# Altium footprint library Wacky_1.PcbLib: 14 footprints
Each footprint in its own frame and in the unit in brackets; x right, y up, seen from the top. Pads: shape width x height; smd on the part's side, far side on the other; paste and mask are expansions set on the pad; w line width, h text height; cw(c..) or ccw(c..) is an arc to the next point about the centre after c.
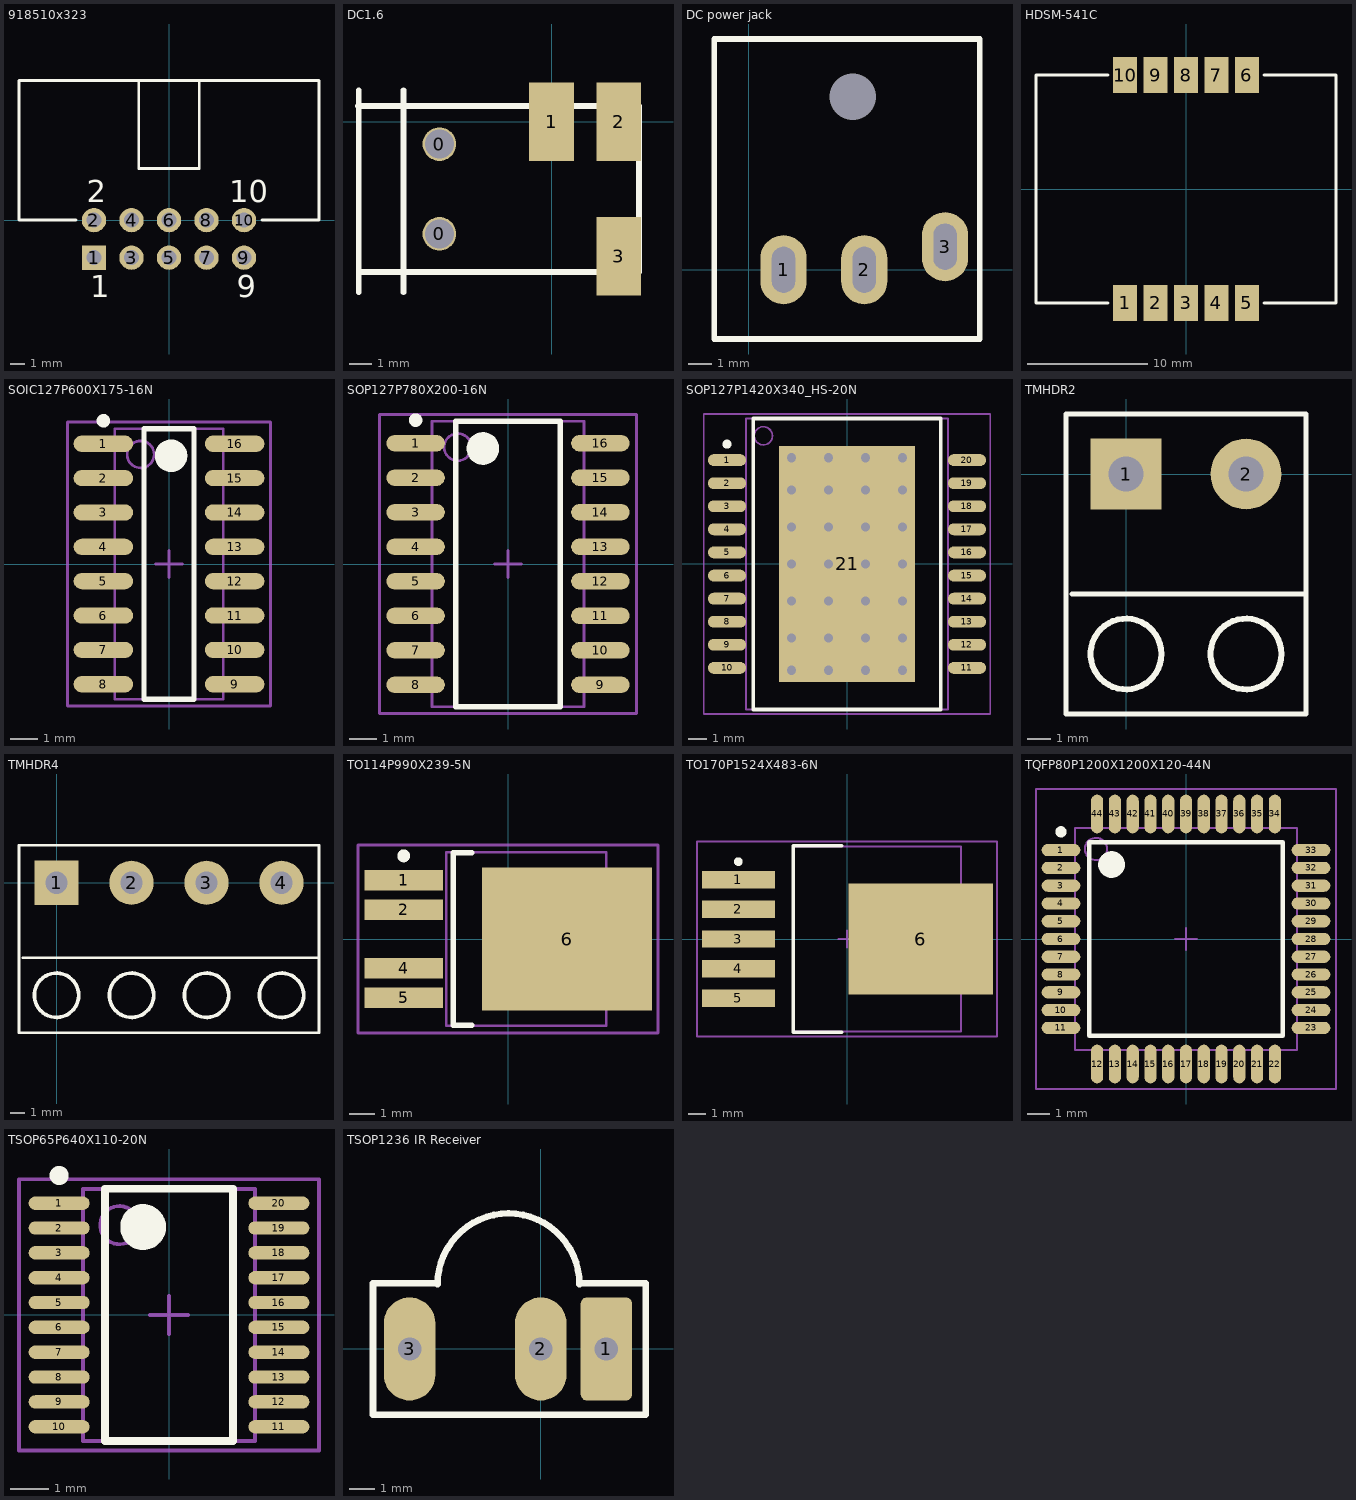
[diagram p0: the footprints below, top view; thin cyan lines are the x and y axes]

## 918510x323 [mm] "Connector; IDC, Low Profile Male Header, Thru-Hole; 10 Position; Right Angle; Pitch 2.54 mm; Body 20.32 x 8.9 x 9.2 mm (LxWxH)"
height 9.2
pads (10):
  rect 1.65x1.65 hole 1: 1(-5.08,-2.54)
  round 1.65 hole 1: 2(-5.08,0) 3(-2.54,-2.54) 4(-2.54,0) 5(0,-2.54) 6(0,0) 7(2.54,-2.54) 8(2.54,0) 9(5.08,-2.54) 10(5.08,0)
Top Overlay:
  lines w0.2: -6.305,0 -10.16,0 -10.16,9.45 10.16,9.45 10.16,0 6.305,0 ; -2.05,9.45 -2.05,3.48 2.05,3.48 2.05,9.45
  text "2" at -5.58,1.2 h1.5
  text "1" at -5.33,-5.24 h1.5
  text "10" at 4.08,1.2 h1.5
  text "9" at 4.58,-5.24 h1.5
3D body: height 9.2, standoff 0, extent -10.26,-0.1 10.26,9.55

## DC1.6 [mm] "DC 1.6mm Socket SMD"
height 6
pads (5):
  round 1.5 hole 1.3 paste+0 mask+0: 0(-5,-5) 0(-5,-1)
  rect 2x3.5 smd paste+0 mask+0: 1(0,0) 2(3,0) 3(3,-6)
Top Overlay:
  lines w0.254: -8.631,0.7 3.9,0.7 3.9,-6.7 -8.6,-6.7 ; -8.6,-7.6 -8.6,1.4 ; -6.6,-7.6 -6.6,1.4

## DC power jack [mm] "almost certianly wrong"
pads (4):
  oval 2x3 hole 1 slot 2 at 90 deg: 1(1.5,0) 2(5,0) 3(8.5,1)
  round 0 hole 2: ""(4.5,7.5)
Top Overlay:
  lines w0.254: -1.5,-3 10,-3 10,10 -1.5,10 -1.5,-3

## HDSM-541C [mm] "2 char 7 segment smt led display"
height 3.75
pads (10):
  rect 2x3 smd: 1(-5.08,-9.5) 2(-2.54,-9.5) 3(0,-9.5) 4(2.54,-9.5) 5(5.08,-9.5) 6(5.08,9.5) 7(2.54,9.5) 8(0,9.5) 9(-2.54,9.5) 10(-5.08,9.5)
Top Overlay:
  lines w0.254: -6.5,-9.5 -12.5,-9.5 -12.5,9.5 -6.5,9.5 ; 6.5,-9.5 12.5,-9.5 12.5,9.5 6.5,9.5
3D body: height 3.75, standoff 0.6, extent -12.5,-8.5 12.5,8.5
3D body: height 0.6, standoff 0.14, extent -12.5,-9.5 12.5,9.5

## SOIC127P600X175-16N [mm] "SOIC, 16-Leads, Body 10.0x4.0mm (max), Pitch 1.27mm, IPC Medium Density"
height 1.75
pads (16):
  oval 2.2x0.6 smd: 1(-2.425,4.445) 2(-2.425,3.175) 3(-2.425,1.905) 4(-2.425,0.635) 5(-2.425,-0.635) 6(-2.425,-1.905) 7(-2.425,-3.175) 8(-2.425,-4.445) 9(2.425,-4.445) 10(2.425,-3.175) 11(2.425,-1.905) 12(2.425,-0.635) 13(2.425,0.635) 14(2.425,1.905) 15(2.425,3.175) 16(2.425,4.445)
Top Overlay:
  circle w0.6: c0.075,4 r0.3
  circle w0.25: c-2.425,5.295 r0.125
  lines w0.2: -0.925,-5 0.925,-5 0.925,5 -0.925,5 -0.925,-5
Mechanical 13:
  circle w0.1: c-1.05,4.05 r0.5
  lines w0.1: -2,-5 2,-5 2,5 -2,5 -2,-5
Mechanical 15:
  lines w0.1: -0.5,0 0.5,0 ; 0,-0.5 0,0.5 ; -3.75,-5.25 3.75,-5.25 3.75,5.25 -3.75,5.25 -3.75,-5.25
3D body: height 1.75, standoff 0.19, extent -2,-5 2,5

## SOP127P780X200-16N [mm] "SOP, 16-Leads, Body 10.5x5.6mm (max), Pitch 1.27mm, IPC Medium Density"
height 2
pads (16):
  oval 2.15x0.6 smd: 1(-3.4,4.445) 2(-3.4,3.175) 3(-3.4,1.905) 4(-3.4,0.635) 5(-3.4,-0.635) 6(-3.4,-1.905) 7(-3.4,-3.175) 8(-3.4,-4.445) 9(3.4,-4.445) 10(3.4,-3.175) 11(3.4,-1.905) 12(3.4,-0.635) 13(3.4,0.635) 14(3.4,1.905) 15(3.4,3.175) 16(3.4,4.445)
Top Overlay:
  circle w0.6: c-0.925,4.25 r0.3
  circle w0.25: c-3.4,5.295 r0.125
  lines w0.2: -1.925,-5.25 1.925,-5.25 1.925,5.25 -1.925,5.25 -1.925,-5.25
Mechanical 13:
  circle w0.1: c-1.85,4.3 r0.5
  lines w0.1: -2.8,-5.25 2.8,-5.25 2.8,5.25 -2.8,5.25 -2.8,-5.25
Mechanical 15:
  lines w0.1: -0.5,0 0.5,0 ; 0,-0.5 0,0.5 ; -4.725,-5.5 4.725,-5.5 4.725,5.5 -4.725,5.5 -4.725,-5.5
3D body: height 2, standoff 0.25, extent -2.8,-5.25 2.8,5.25

## SOP127P1420X340_HS-20N [mm] "SOP, 20-Leads, Body 16.0x11.1mm (max), Pitch 1.27mm, IPC Medium Density"
height 3.4
pads (21):
  oval 2.1x0.65 smd: 1(-6.6,5.715) 2(-6.6,4.445) 3(-6.6,3.175) 4(-6.6,1.905) 5(-6.6,0.635) 6(-6.6,-0.635) 7(-6.6,-1.905) 8(-6.6,-3.175) 9(-6.6,-4.445) 10(-6.6,-5.715) 11(6.6,-5.715) 12(6.6,-4.445) 13(6.6,-3.175) 14(6.6,-1.905) 15(6.6,-0.635) 16(6.6,0.635) 17(6.6,1.905) 18(6.6,3.175) 19(6.6,4.445) 20(6.6,5.715)
  rect 7.5x13 smd: 21(0,0)
via 3.048,-4.064 diameter 1 hole 0.5
via 3.048,-2.032 diameter 1 hole 0.5
via -3.048,-2.032 diameter 1 hole 0.5
via 3.048,0 diameter 1 hole 0.5
via -3.048,0 diameter 1 hole 0.5
via 3.048,2.032 diameter 1 hole 0.5
via -3.048,2.032 diameter 1 hole 0.5
via 3.048,4.064 diameter 1 hole 0.5
via -3.048,4.064 diameter 1 hole 0.5
via 3.048,5.842 diameter 1 hole 0.5
via -3.048,5.842 diameter 1 hole 0.5
via 1.016,0 diameter 1 hole 0.5
via 1.016,5.842 diameter 1 hole 0.5
via 1.016,4.064 diameter 1 hole 0.5
via 1.016,2.032 diameter 1 hole 0.5
via 1.016,-2.032 diameter 1 hole 0.5
via 1.016,-4.064 diameter 1 hole 0.5
via 1.016,-5.842 diameter 1 hole 0.5
via -1.016,-5.842 diameter 1 hole 0.5
via -1.016,-4.064 diameter 1 hole 0.5
via -1.016,-2.032 diameter 1 hole 0.5
via -1.016,0 diameter 1 hole 0.5
via -1.016,2.032 diameter 1 hole 0.5
via -1.016,4.064 diameter 1 hole 0.5
via -1.016,5.842 diameter 1 hole 0.5
via -3.048,-4.064 diameter 1 hole 0.5
via -3.048,-5.842 diameter 1 hole 0.5
via 3.048,-5.842 diameter 1 hole 0.5
Top Overlay:
  circle w0.25: c-6.6,6.59 r0.125
  lines w0.2: -5.15,-8 5.15,-8 5.15,8 -5.15,8 -5.15,-8
Mechanical 13:
  circle w0.1: c-4.6,7.05 r0.5
  lines w0.1: -5.55,-8 5.55,-8 5.55,8 -5.55,8 -5.55,-8
Mechanical 15:
  lines w0.1: -0.5,0 0.5,0 ; 0,-0.5 0,0.5 ; -7.875,-8.25 7.875,-8.25 7.875,8.25 -7.875,8.25 -7.875,-8.25
3D body: height 3.4, standoff 0.1, extent -5.55,-8 5.55,8

## TMHDR2 [mm] "5.08mm Pluggable Terminal Header"
height 7.8
pads (2):
  rect 3x3 hole 1.5: 1(0,0)
  round 3 hole 1.5: 2(5.08,0)
Top Overlay:
  circle w0.254: c5.08,-7.62 r1.5
  circle w0.254: c0,-7.62 r1.5
  lines w0.2: -2.286,-5.08 7.62,-5.08 ; -2.54,-10.16 -2.54,2.54 7.62,2.54 7.62,-10.16 -2.54,-10.16

## TMHDR4 [mm] "5.08mm Pluggable Terminal Header"
height 7.8
pads (4):
  rect 3x3 hole 1.5: 1(0,0)
  round 3 hole 1.5: 2(5.08,0) 3(10.16,0) 4(15.24,0)
Top Overlay:
  circle w0.254: c15.24,-7.62 r1.5
  circle w0.254: c10.16,-7.62 r1.5
  circle w0.254: c5.08,-7.62 r1.5
  circle w0.254: c0,-7.62 r1.5
  lines w0.2: -2.286,-5.08 17.78,-5.08 ; -2.54,-10.16 -2.54,2.54 17.78,2.54 17.78,-10.16 -2.54,-10.16

## TO114P990X239-5N [mm] "D-PAK, 5-Pads, Body 6.2x6.7mm (max), IPC Medium Density"
height 2.39
pads (5):
  rect 3.05x0.8 smd: 1(-4.05,2.28) 2(-4.05,1.14) 4(-4.05,-1.14) 5(-4.05,-2.28)
  rect 6.6x5.55 smd: 6(2.3,0)
Top Overlay:
  circle w0.25: c-4.05,3.23 r0.125
  lines w0.2: -1.4,-3.35 -2.125,-3.35 -2.125,3.35 -1.4,3.35
Mechanical 13:
  lines w0.1: -2.4,-3.375 3.82,-3.375 3.82,3.375 -2.4,3.375 -2.4,-3.375
Mechanical 15:
  lines w0.1: -0.5,0 0.5,0 ; 0,-0.5 0,0.5 ; -5.825,-3.65 5.825,-3.65 5.825,3.65 -5.825,3.65 -5.825,-3.65
3D body: height 2.39, standoff 0.13, extent -2.4,-3.375 3.82,3.375

## TO170P1524X483-6N [mm] "D2-PAK, 6-Pads, Body 9.6x10.7mm (max), IPC Medium Density"
height 4.83
pads (6):
  rect 4.2x1 smd: 1(-6.25,3.4) 2(-6.25,1.7) 3(-6.25,0) 4(-6.25,-1.7) 5(-6.25,-3.4)
  rect 8.3x6.4 smd: 6(4.25,0)
Top Overlay:
  circle w0.25: c-6.25,4.45 r0.125
  lines w0.2: -0.3,-5.35 -3.1,-5.35 -3.1,5.35 -0.3,5.35
Mechanical 13:
  lines w0.1: -3.1,-5.325 6.55,-5.325 6.55,5.325 -3.1,5.325 -3.1,-5.325
Mechanical 15:
  lines w0.1: -0.5,0 0.5,0 ; 0,-0.5 0,0.5 ; -8.625,-5.6 8.625,-5.6 8.625,5.6 -8.625,5.6 -8.625,-5.6
3D body: height 4.83, standoff 0.3, extent -3.1,-5.325 6.55,5.325

## TQFP80P1200X1200X120-44N [mm] "TQFP, 44-Leads, Body 12.3x12.3mm (max), Pitch 0.80mm, IPC Medium Density"
height 1.2
pads (44):
  oval 1.75x0.55 smd: 1(-5.625,4) 2(-5.625,3.2) 3(-5.625,2.4) 4(-5.625,1.6) 5(-5.625,0.8) 6(-5.625,0) 7(-5.625,-0.8) 8(-5.625,-1.6) 9(-5.625,-2.4) 10(-5.625,-3.2) 11(-5.625,-4) 23(5.625,-4) 24(5.625,-3.2) 25(5.625,-2.4) 26(5.625,-1.6) 27(5.625,-0.8) 28(5.625,0) 29(5.625,0.8) 30(5.625,1.6) 31(5.625,2.4) 32(5.625,3.2) 33(5.625,4)
  oval 0.55x1.75 smd: 12(-4,-5.625) 13(-3.2,-5.625) 14(-2.4,-5.625) 15(-1.6,-5.625) 16(-0.8,-5.625) 17(0,-5.625) 18(0.8,-5.625) 19(1.6,-5.625) 20(2.4,-5.625) 21(3.2,-5.625) 22(4,-5.625) 34(4,5.625) 35(3.2,5.625) 36(2.4,5.625) 37(1.6,5.625) 38(0.8,5.625) 39(0,5.625) 40(-0.8,5.625) 41(-1.6,5.625) 42(-2.4,5.625) 43(-3.2,5.625) 44(-4,5.625)
Top Overlay:
  circle w0.6: c-3.35,3.35 r0.3
  circle w0.25: c-5.625,4.825 r0.125
  lines w0.2: -4.35,-4.35 4.35,-4.35 4.35,4.35 -4.35,4.35 -4.35,-4.35
Mechanical 13:
  circle w0.1: c-4.05,4.05 r0.5
  lines w0.1: -5,-5 5,-5 5,5 -5,5 -5,-5
Mechanical 15:
  lines w0.1: -0.5,0 0.5,0 ; 0,-0.5 0,0.5 ; -6.75,-6.75 6.75,-6.75 6.75,6.75 -6.75,6.75 -6.75,-6.75
3D body: height 1.2, standoff 0.05, extent -5,-5 5,5

## TSOP65P640X110-20N [mm] "TSOP, 20-Leads, Body 6.6x4.5mm (max), Pitch 0.65mm, IPC Medium Density"
height 1.1
pads (20):
  oval 1.6x0.35 smd: 1(-2.875,2.925) 2(-2.875,2.275) 3(-2.875,1.625) 4(-2.875,0.975) 5(-2.875,0.325) 6(-2.875,-0.325) 7(-2.875,-0.975) 8(-2.875,-1.625) 9(-2.875,-2.275) 10(-2.875,-2.925) 11(2.875,-2.925) 12(2.875,-2.275) 13(2.875,-1.625) 14(2.875,-0.975) 15(2.875,-0.325) 16(2.875,0.325) 17(2.875,0.975) 18(2.875,1.625) 19(2.875,2.275) 20(2.875,2.925)
Top Overlay:
  circle w0.6: c-0.675,2.3 r0.3
  circle w0.25: c-2.875,3.65 r0.125
  lines w0.2: -1.675,-3.3 1.675,-3.3 1.675,3.3 -1.675,3.3 -1.675,-3.3
Mechanical 13:
  circle w0.1: c-1.3,2.35 r0.5
  lines w0.1: -2.25,-3.3 2.25,-3.3 2.25,3.3 -2.25,3.3 -2.25,-3.3
Mechanical 15:
  lines w0.1: -0.5,0 0.5,0 ; 0,-0.5 0,0.5 ; -3.925,-3.55 3.925,-3.55 3.925,3.55 -3.925,3.55 -3.925,-3.55
3D body: height 1.1, standoff 0.05, extent -2.25,-3.3 2.25,3.3

## TSOP1236 IR Receiver [mm] "Vishay IR Receiver Module"
height 10.25
pads (3):
  rrect25% 2x4 hole 0.9: 1(2.54,0)
  oval 2x4 hole 0.9: 2(0,0) 3(-5.08,0)
Top Overlay:
  lines w0.254: -4,2.5 cw(c-1.25,2.5) 1.5,2.5 ; -4,2.54 -6.5,2.54 -6.5,-2.54 4.064,-2.54 4.064,2.54 1.5,2.54